# EAGLE library part SR6B4* (library relay)
Safety Relay SR6 SCHRACK sensitive 6 pole 8 A Source: http://www.schrack.com/.. 6688.pdf
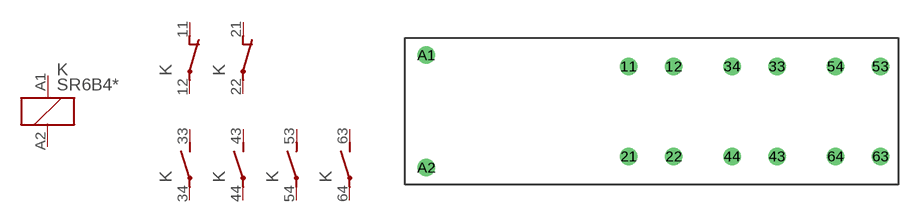
[diagram p138: symbol with the pads of SR6B; footprint SR6B]

Designator prefix K; gates 1=K 2=O 3=O 4=S 5=S 6=S 7=S

## SR6B4S05 (OC_FARNELL: unknown; OC_NEWARK: unknown), SR6B4S06 (OC_FARNELL: unknown; OC_NEWARK: unknown), SR6B4S09 (OC_FARNELL: unknown; OC_NEWARK: unknown), SR6B4S12 (OC_FARNELL: unknown; OC_NEWARK: unknown), SR6B4S15 (OC_FARNELL: unknown; OC_NEWARK: unknown), SR6B4S18 (OC_FARNELL: unknown; OC_NEWARK: unknown), SR6B4S21 (OC_FARNELL: unknown; OC_NEWARK: unknown), SR6B4S24 (OC_FARNELL: unknown; OC_NEWARK: unknown), SR6B4S36 (OC_FARNELL: unknown; OC_NEWARK: unknown), SR6B4S40 (OC_FARNELL: unknown; OC_NEWARK: unknown), SR6B4S48 (OC_FARNELL: unknown; OC_NEWARK: unknown)  [SR6B]
11  2:O  pas
12  2:P  pas
21  3:O  pas
22  3:P  pas
33  4:S  pas
34  4:P  pas
43  5:S  pas
44  5:P  pas
53  6:S  pas
54  6:P  pas
63  7:S  pas
64  7:P  pas
A1  1:1  pas
A2  1:2  pas

## Footprint SR6B (pad centres in mm)
Safety Relay SR6 SCHRACK sensitive 6 pole 8 A, Type A Source: http://www.schrack.com/.. 6688.pdf
drill 1.3 pad 1: 11 -0.3,4.7; 12 4.7,4.7; 21 -0.3,-5.3; 22 4.7,-5.3; 33 16.2,4.7; 34 11.2,4.7; 43 16.2,-5.3; 44 11.2,-5.3; 53 27.7,4.7; 54 22.7,4.7; 63 27.7,-5.3; 64 22.7,-5.3; A1 -22.8,5.95; A2 -22.8,-6.55